# Altium integrated library Linear Technology Power Management LED Driver ICs.IntLib: 490 symbols (part 47 of 48)
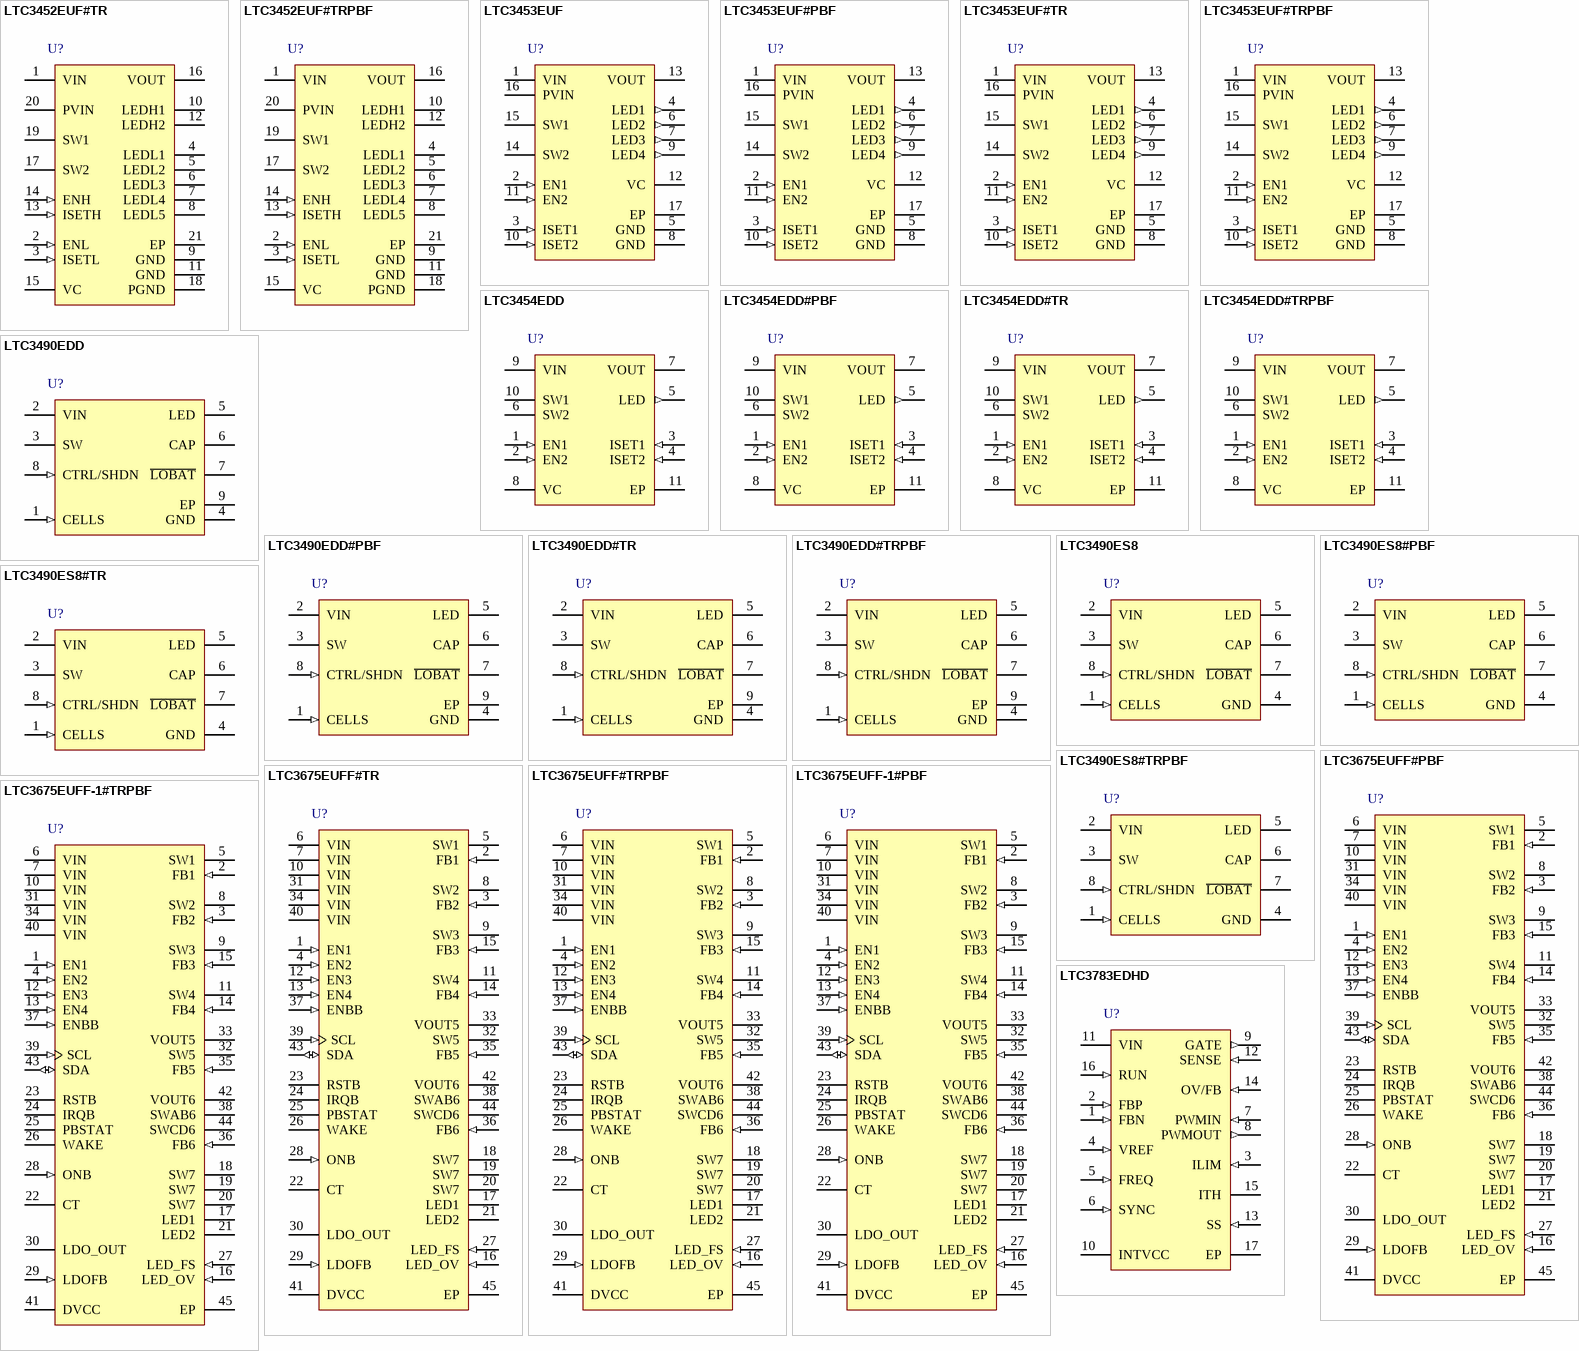
[diagram p66: symbols LTC3452EUF#TR to LTC3783EDHD]

## LTC3675EUFF#PBF
designator U?
7-Channel Configurable High Power PMIC, 2.7 to 5.5 V Vin, 5.5 V Vout MAX, 44-pin QFN (UFF-44-V-UFF44MA), -40 to 125 degC, Pb-Free; Manufacturer: Linear Technology; PartNumber: LTC3675EUFF#PBF; Topology: Buck; Vin Min(V): 2.7; DatasheetVersion: Rev. C; PackageVersion: Rev. A, 06/2010; PackageReference: UFF-44; PackageDescription: 44-Pin Plastic QFN, Body 4 x 7 mm, Pitch 0.4 mm; Supplier 1: Digi-Key; Supplier Part Number 1: LTC3675EUFF#PBF-ND; Supplier 2: Newark; Supplier Part Number 2: 13T3891; RoHS: TRUE; Mounting Technology: Surface Mount; ComponentLink1Description: Manufacturer URL; ComponentLink1URL: http://www.linear.com/; ComponentLink2Description: Datasheet; ComponentLink2URL: http://cds.linear.com/docs/en/datasheet/36751fc.pdf; ComponentLink3Description: Package Specification; ComponentLink3URL: http://cds.linear.com/docs/en/packaging/QFN_44_05-08-1762.pdf
footprint LT-UFF-44-V-UFF44MA_V (QFN, 44-Leads, Body 7x4mm, Pitch 0.4mm, Thermal Pad 3.26x2.64mm)
pins: 1 EN1 (in) "Buck Regulator 1 Enable Input. Active high. This pin is a high impedance input; do not float.", 2 FB1 (in) "Buck Regulator 1 Feedback Pin. Receives feedback by a resistor divider connected across the output.", 3 FB2 (in) "Buck Regulator 2 Feedback Pin. Receives feedback by a resistor divider connected across the output. Connecting FB2 to VIN combines buck regulator 2 with buck regulator 1 for higher current.", 4 EN2 (in) "Buck Regulator 2 Enable Input. Active high. This pin is a high impedance input; do not float.", 5 SW1 (power) "Buck Regulator 1 Switch Node. External inductor connects to this pin.", 6 VIN (power) "Buck Regulator 1 Input Supply. A 10uF decoupling capacitor to GND is recommended. Must be connected to all other VIN supply pins", 7 VIN (power) "Buck Regulator 2 Input Supply. A 10uF decoupling capacitor to GND is recommended. Must be connected to all other VIN supply pins", 8 SW2 (power) "Buck Regulator 2 Switch Node. External inductor connects to this pin.", 9 SW3 (power) "Buck Regulator 3 Switch Node. External inductor connects to this pin.", 10 VIN (power) "Buck Regulators 3 and 4 Input Supply. A 10uF decoupling capacitor to GND is recommended. Must be connected to all other VIN supply pins", 11 SW4 (power) "Buck Regulator 4 Switch Node. External inductor connects to this pin.", 12 EN3 (in) "Buck Regulator 3 Enable Input. Active high. This pin is a high impedance input; do not float.", 13 EN4 (in) "Buck Regulator 4 Enable Input. Active high. This pin is a high impedance input; do not float.", 14 FB4 (in) "Buck Regulator 4 Feedback Pin. Receives feedback by a resistor divider connected across the output. Connecting FB4 to VIN combines buck regulator 4 with buck regulator 3 for higher current.", 15 FB3 (in) "Buck Regulator 3 Feedback Pin. Receives feedback by a resistor divider connected across the output. Connecting FB3 to VIN combines buck regulator 3 with buck regulator 2 for higher current.", 16 LED_OV (in) "Overvoltage Protection Pin for LED Driver.", 17 LED1 (power) "Connect a s tring of up to 10 LEDs to this pin.", 18 SW7 (power) "LED Driver Switch Node. External inductor connects to these pins.", 19 SW7 (power) "LED Driver Switch Node. External inductor connects to these pins.", 20 SW7 (power) "LED Driver Switch Node. External inductor connects to these pins.", 21 LED2 (power) "Connect a string of up to 10 LEDs to this pin.", 22 CT "Timing Capacitor Pin. A capacitor connected to GND sets a time constant which is scaled for use by the WAKE, RSTB and IRQB pins.", 23 RSTB (hiz) "Reset Pin. Open drain output. When the regulated output voltage of any enabled switching regulator is more than 8% below its programmed level, this pin is driven LOW. Assertion delay is scaled by the CT capacitor.", 24 IRQB (hiz) "Interrupt Pin. Open drain output. When undervoltage, overtemperature, or an unmasked error condition is detected, this pin is driven LOW.", 25 PBSTAT (hiz) "Pushbutton Status Pin. Open drain output. This pin provides a debounced and glitch free status of the ONB pin.", 26 WAKE (oc) "Open Drain Output. When the ONB pin is pressed and released, the signal is debounced and the WAKE signal is held HIGH for a minimum time period that is scaled by the CT capacitor.", 27 LED_FS (in) "A resistor connected from this pin to GND programs full-scale LED current.", 28 ONB (in) "Pushbutton Input. Active low.", 29 LDOFB (in) "LDO Feedback Pin. A resistor divider from LDO_OUT to GND provides feedback.", 30 LDO_OUT (power) "Output of Always-On LDO. Decouple with a 10uF capacitor to GND.", 31 VIN (power) "Quiet Input Supply Used to Power NonSwitching Control Circuitry. A 2.2uF decoupling capacitor to GND is recommended. Must be connected to all other VIN supply pins", 32 SW5 "Boost Regulator Switch Node. External inductor connects to this pin.", 33 VOUT5 (power) "Boost Regulator Output. Connect two 22uF capacitors to GND.", 34 VIN (power) "Quiet Input Supply Used to Power NonSwitching Control Circuitry. A 2.2uF decoupling capacitor to GND is recommended. Must be connected to all other VIN supply pins", 35 FB5 (in) "Boost Regulator Feedback Pin. Receives feedbackby a resistor divide rconnected across the output.", 36 FB6 (in) "Buck-Boost Regulator Feedback Pin. Receives feedback by a resistor divider connected across the output.", 37 ENBB (in) "Buck-Boost Regulator Enable Input. Active high. This pin is a high impedance input; do not float.", 38 SWAB6 "Buck-Boost Regulator Switch Pin. External inductor connects to this pin and SWCD6.", 39 SCL (in) "Clock Line for I2C Port.", 40 VIN (power) "Buck-Boost Regulator Input Supply. A 10uF decoupling capacitor to GND is recommended. Must be connected to all other VIN supply pins", 41 DVCC (power) "Supply Pin for I2C Port.", 42 VOUT6 (power) "Buck-Boost Regulator Output. Connect a 22uF capacitor to GND.", 43 SDA (io) "Serial Data Line for I2C Port. Open drain output during readback.", 44 SWCD6 "Buck-Boost Regulator Switch Pin. External inductor connects to this pin and SWAB6.", 45 EP (power) "Ground for Entire Chip. Must be soldered to PCB for electrical contact and rated thermal performance."

## LTC3675EUFF#TR
designator U?
7-Channel Configurable High Power PMIC, 2.7 to 5.5 V Vin, 5.5 V Vout MAX, 44-pin QFN (UFF-44-V-UFF44MA), -40 to 125 degC, Tape and Reel; Manufacturer: Linear Technology; PartNumber: LTC3675EUFF#TR; Topology: Buck; Vin Min(V): 2.7; DatasheetVersion: Rev. C; PackageVersion: Rev. A, 06/2010; PackageReference: UFF-44; PackageDescription: 44-Pin Plastic QFN, Body 4 x 7 mm, Pitch 0.4 mm; Packing: Tape and Reel; RoHS: FALSE; Mounting Technology: Surface Mount; ComponentLink1Description: Manufacturer URL; ComponentLink1URL: http://www.linear.com/; ComponentLink2Description: Datasheet; ComponentLink2URL: http://cds.linear.com/docs/en/datasheet/36751fc.pdf; ComponentLink3Description: Package Specification; ComponentLink3URL: http://cds.linear.com/docs/en/packaging/QFN_44_05-08-1762.pdf
footprint LT-UFF-44-V-UFF44MA_V (QFN, 44-Leads, Body 7x4mm, Pitch 0.4mm, Thermal Pad 3.26x2.64mm)
pins: 1 EN1 (in) "Buck Regulator 1 Enable Input. Active high. This pin is a high impedance input; do not float.", 2 FB1 (in) "Buck Regulator 1 Feedback Pin. Receives feedback by a resistor divider connected across the output.", 3 FB2 (in) "Buck Regulator 2 Feedback Pin. Receives feedback by a resistor divider connected across the output. Connecting FB2 to VIN combines buck regulator 2 with buck regulator 1 for higher current.", 4 EN2 (in) "Buck Regulator 2 Enable Input. Active high. This pin is a high impedance input; do not float.", 5 SW1 (power) "Buck Regulator 1 Switch Node. External inductor connects to this pin.", 6 VIN (power) "Buck Regulator 1 Input Supply. A 10uF decoupling capacitor to GND is recommended. Must be connected to all other VIN supply pins", 7 VIN (power) "Buck Regulator 2 Input Supply. A 10uF decoupling capacitor to GND is recommended. Must be connected to all other VIN supply pins", 8 SW2 (power) "Buck Regulator 2 Switch Node. External inductor connects to this pin.", 9 SW3 (power) "Buck Regulator 3 Switch Node. External inductor connects to this pin.", 10 VIN (power) "Buck Regulators 3 and 4 Input Supply. A 10uF decoupling capacitor to GND is recommended. Must be connected to all other VIN supply pins", 11 SW4 (power) "Buck Regulator 4 Switch Node. External inductor connects to this pin.", 12 EN3 (in) "Buck Regulator 3 Enable Input. Active high. This pin is a high impedance input; do not float.", 13 EN4 (in) "Buck Regulator 4 Enable Input. Active high. This pin is a high impedance input; do not float.", 14 FB4 (in) "Buck Regulator 4 Feedback Pin. Receives feedback by a resistor divider connected across the output. Connecting FB4 to VIN combines buck regulator 4 with buck regulator 3 for higher current.", 15 FB3 (in) "Buck Regulator 3 Feedback Pin. Receives feedback by a resistor divider connected across the output. Connecting FB3 to VIN combines buck regulator 3 with buck regulator 2 for higher current.", 16 LED_OV (in) "Overvoltage Protection Pin for LED Driver.", 17 LED1 (power) "Connect a s tring of up to 10 LEDs to this pin.", 18 SW7 (power) "LED Driver Switch Node. External inductor connects to these pins.", 19 SW7 (power) "LED Driver Switch Node. External inductor connects to these pins.", 20 SW7 (power) "LED Driver Switch Node. External inductor connects to these pins.", 21 LED2 (power) "Connect a string of up to 10 LEDs to this pin.", 22 CT "Timing Capacitor Pin. A capacitor connected to GND sets a time constant which is scaled for use by the WAKE, RSTB and IRQB pins.", 23 RSTB (hiz) "Reset Pin. Open drain output. When the regulated output voltage of any enabled switching regulator is more than 8% below its programmed level, this pin is driven LOW. Assertion delay is scaled by the CT capacitor.", 24 IRQB (hiz) "Interrupt Pin. Open drain output. When undervoltage, overtemperature, or an unmasked error condition is detected, this pin is driven LOW.", 25 PBSTAT (hiz) "Pushbutton Status Pin. Open drain output. This pin provides a debounced and glitch free status of the ONB pin.", 26 WAKE (oc) "Open Drain Output. When the ONB pin is pressed and released, the signal is debounced and the WAKE signal is held HIGH for a minimum time period that is scaled by the CT capacitor.", 27 LED_FS (in) "A resistor connected from this pin to GND programs full-scale LED current.", 28 ONB (in) "Pushbutton Input. Active low.", 29 LDOFB (in) "LDO Feedback Pin. A resistor divider from LDO_OUT to GND provides feedback.", 30 LDO_OUT (power) "Output of Always-On LDO. Decouple with a 10uF capacitor to GND.", 31 VIN (power) "Quiet Input Supply Used to Power NonSwitching Control Circuitry. A 2.2uF decoupling capacitor to GND is recommended. Must be connected to all other VIN supply pins", 32 SW5 "Boost Regulator Switch Node. External inductor connects to this pin.", 33 VOUT5 (power) "Boost Regulator Output. Connect two 22uF capacitors to GND.", 34 VIN (power) "Quiet Input Supply Used to Power NonSwitching Control Circuitry. A 2.2uF decoupling capacitor to GND is recommended. Must be connected to all other VIN supply pins", 35 FB5 (in) "Boost Regulator Feedback Pin. Receives feedbackby a resistor divide rconnected across the output.", 36 FB6 (in) "Buck-Boost Regulator Feedback Pin. Receives feedback by a resistor divider connected across the output.", 37 ENBB (in) "Buck-Boost Regulator Enable Input. Active high. This pin is a high impedance input; do not float.", 38 SWAB6 "Buck-Boost Regulator Switch Pin. External inductor connects to this pin and SWCD6.", 39 SCL (in) "Clock Line for I2C Port.", 40 VIN (power) "Buck-Boost Regulator Input Supply. A 10uF decoupling capacitor to GND is recommended. Must be connected to all other VIN supply pins", 41 DVCC (power) "Supply Pin for I2C Port.", 42 VOUT6 (power) "Buck-Boost Regulator Output. Connect a 22uF capacitor to GND.", 43 SDA (io) "Serial Data Line for I2C Port. Open drain output during readback.", 44 SWCD6 "Buck-Boost Regulator Switch Pin. External inductor connects to this pin and SWAB6.", 45 EP (power) "Ground for Entire Chip. Must be soldered to PCB for electrical contact and rated thermal performance."

## LTC3675EUFF#TRPBF
designator U?
7-Channel Configurable High Power PMIC, 2.7 to 5.5 V Vin, 5.5 V Vout MAX, 44-pin QFN (UFF-44-V-UFF44MA), -40 to 125 degC, Pb-Free, Tape and Reel; Manufacturer: Linear Technology; PartNumber: LTC3675EUFF#TRPBF; Topology: Buck; Vin Min(V): 2.7; DatasheetVersion: Rev. C; PackageVersion: Rev. A, 06/2010; PackageReference: UFF-44; PackageDescription: 44-Pin Plastic QFN, Body 4 x 7 mm, Pitch 0.4 mm; Supplier 1: Digi-Key; Supplier Part Number 1: LTC3675EUFF#TRPBF-ND; Supplier 2: Newark; Supplier Part Number 2: 13T3892; Packing: Tape and Reel; RoHS: TRUE; Mounting Technology: Surface Mount; ComponentLink1Description: Manufacturer URL; ComponentLink1URL: http://www.linear.com/; ComponentLink2Description: Datasheet; ComponentLink2URL: http://cds.linear.com/docs/en/datasheet/36751fc.pdf; ComponentLink3Description: Package Specification; ComponentLink3URL: http://cds.linear.com/docs/en/packaging/QFN_44_05-08-1762.pdf
footprint LT-UFF-44-V-UFF44MA_V (QFN, 44-Leads, Body 7x4mm, Pitch 0.4mm, Thermal Pad 3.26x2.64mm)
pins: 1 EN1 (in) "Buck Regulator 1 Enable Input. Active high. This pin is a high impedance input; do not float.", 2 FB1 (in) "Buck Regulator 1 Feedback Pin. Receives feedback by a resistor divider connected across the output.", 3 FB2 (in) "Buck Regulator 2 Feedback Pin. Receives feedback by a resistor divider connected across the output. Connecting FB2 to VIN combines buck regulator 2 with buck regulator 1 for higher current.", 4 EN2 (in) "Buck Regulator 2 Enable Input. Active high. This pin is a high impedance input; do not float.", 5 SW1 (power) "Buck Regulator 1 Switch Node. External inductor connects to this pin.", 6 VIN (power) "Buck Regulator 1 Input Supply. A 10uF decoupling capacitor to GND is recommended. Must be connected to all other VIN supply pins", 7 VIN (power) "Buck Regulator 2 Input Supply. A 10uF decoupling capacitor to GND is recommended. Must be connected to all other VIN supply pins", 8 SW2 (power) "Buck Regulator 2 Switch Node. External inductor connects to this pin.", 9 SW3 (power) "Buck Regulator 3 Switch Node. External inductor connects to this pin.", 10 VIN (power) "Buck Regulators 3 and 4 Input Supply. A 10uF decoupling capacitor to GND is recommended. Must be connected to all other VIN supply pins", 11 SW4 (power) "Buck Regulator 4 Switch Node. External inductor connects to this pin.", 12 EN3 (in) "Buck Regulator 3 Enable Input. Active high. This pin is a high impedance input; do not float.", 13 EN4 (in) "Buck Regulator 4 Enable Input. Active high. This pin is a high impedance input; do not float.", 14 FB4 (in) "Buck Regulator 4 Feedback Pin. Receives feedback by a resistor divider connected across the output. Connecting FB4 to VIN combines buck regulator 4 with buck regulator 3 for higher current.", 15 FB3 (in) "Buck Regulator 3 Feedback Pin. Receives feedback by a resistor divider connected across the output. Connecting FB3 to VIN combines buck regulator 3 with buck regulator 2 for higher current.", 16 LED_OV (in) "Overvoltage Protection Pin for LED Driver.", 17 LED1 (power) "Connect a s tring of up to 10 LEDs to this pin.", 18 SW7 (power) "LED Driver Switch Node. External inductor connects to these pins.", 19 SW7 (power) "LED Driver Switch Node. External inductor connects to these pins.", 20 SW7 (power) "LED Driver Switch Node. External inductor connects to these pins.", 21 LED2 (power) "Connect a string of up to 10 LEDs to this pin.", 22 CT "Timing Capacitor Pin. A capacitor connected to GND sets a time constant which is scaled for use by the WAKE, RSTB and IRQB pins.", 23 RSTB (hiz) "Reset Pin. Open drain output. When the regulated output voltage of any enabled switching regulator is more than 8% below its programmed level, this pin is driven LOW. Assertion delay is scaled by the CT capacitor.", 24 IRQB (hiz) "Interrupt Pin. Open drain output. When undervoltage, overtemperature, or an unmasked error condition is detected, this pin is driven LOW.", 25 PBSTAT (hiz) "Pushbutton Status Pin. Open drain output. This pin provides a debounced and glitch free status of the ONB pin.", 26 WAKE (oc) "Open Drain Output. When the ONB pin is pressed and released, the signal is debounced and the WAKE signal is held HIGH for a minimum time period that is scaled by the CT capacitor.", 27 LED_FS (in) "A resistor connected from this pin to GND programs full-scale LED current.", 28 ONB (in) "Pushbutton Input. Active low.", 29 LDOFB (in) "LDO Feedback Pin. A resistor divider from LDO_OUT to GND provides feedback.", 30 LDO_OUT (power) "Output of Always-On LDO. Decouple with a 10uF capacitor to GND.", 31 VIN (power) "Quiet Input Supply Used to Power NonSwitching Control Circuitry. A 2.2uF decoupling capacitor to GND is recommended. Must be connected to all other VIN supply pins", 32 SW5 "Boost Regulator Switch Node. External inductor connects to this pin.", 33 VOUT5 (power) "Boost Regulator Output. Connect two 22uF capacitors to GND.", 34 VIN (power) "Quiet Input Supply Used to Power NonSwitching Control Circuitry. A 2.2uF decoupling capacitor to GND is recommended. Must be connected to all other VIN supply pins", 35 FB5 (in) "Boost Regulator Feedback Pin. Receives feedbackby a resistor divide rconnected across the output.", 36 FB6 (in) "Buck-Boost Regulator Feedback Pin. Receives feedback by a resistor divider connected across the output.", 37 ENBB (in) "Buck-Boost Regulator Enable Input. Active high. This pin is a high impedance input; do not float.", 38 SWAB6 "Buck-Boost Regulator Switch Pin. External inductor connects to this pin and SWCD6.", 39 SCL (in) "Clock Line for I2C Port.", 40 VIN (power) "Buck-Boost Regulator Input Supply. A 10uF decoupling capacitor to GND is recommended. Must be connected to all other VIN supply pins", 41 DVCC (power) "Supply Pin for I2C Port.", 42 VOUT6 (power) "Buck-Boost Regulator Output. Connect a 22uF capacitor to GND.", 43 SDA (io) "Serial Data Line for I2C Port. Open drain output during readback.", 44 SWCD6 "Buck-Boost Regulator Switch Pin. External inductor connects to this pin and SWAB6.", 45 EP (power) "Ground for Entire Chip. Must be soldered to PCB for electrical contact and rated thermal performance."

## LTC3675EUFF-1#PBF
designator U?
7-Channel Configurable High Power PMIC, 2.7 to 5.5 V Vin, 5.5 V Vout MAX, 44-pin QFN (UFF-44-V-UFF44MA), -40 to 125 degC, Pb-Free; Manufacturer: Linear Technology; PartNumber: LTC3675EUFF-1#PBF; Topology: Buck; Vin Min(V): 2.7; DatasheetVersion: Rev. C; PackageVersion: Rev. A, 06/2010; PackageReference: UFF-44; PackageDescription: 44-Pin Plastic QFN, Body 4 x 7 mm, Pitch 0.4 mm; Supplier 1: Digi-Key; Supplier Part Number 1: LTC3675EUFF-1#PBF-ND; Supplier 2: Newark; Supplier Part Number 2: 55W6740; RoHS: TRUE; Mounting Technology: Surface Mount; ComponentLink1Description: Manufacturer URL; ComponentLink1URL: http://www.linear.com/; ComponentLink2Description: Datasheet; ComponentLink2URL: http://cds.linear.com/docs/en/datasheet/36751fc.pdf; ComponentLink3Description: Package Specification; ComponentLink3URL: http://cds.linear.com/docs/en/packaging/QFN_44_05-08-1762.pdf
footprint LT-UFF-44-V-UFF44MA_V (QFN, 44-Leads, Body 7x4mm, Pitch 0.4mm, Thermal Pad 3.26x2.64mm)
pins: 1 EN1 (in) "Buck Regulator 1 Enable Input. Active high. This pin is a high impedance input; do not float.", 2 FB1 (in) "Buck Regulator 1 Feedback Pin. Receives feedback by a resistor divider connected across the output.", 3 FB2 (in) "Buck Regulator 2 Feedback Pin. Receives feedback by a resistor divider connected across the output. Connecting FB2 to VIN combines buck regulator 2 with buck regulator 1 for higher current.", 4 EN2 (in) "Buck Regulator 2 Enable Input. Active high. This pin is a high impedance input; do not float.", 5 SW1 (power) "Buck Regulator 1 Switch Node. External inductor connects to this pin.", 6 VIN (power) "Buck Regulator 1 Input Supply. A 10uF decoupling capacitor to GND is recommended. Must be connected to all other VIN supply pins", 7 VIN (power) "Buck Regulator 2 Input Supply. A 10uF decoupling capacitor to GND is recommended. Must be connected to all other VIN supply pins", 8 SW2 (power) "Buck Regulator 2 Switch Node. External inductor connects to this pin.", 9 SW3 (power) "Buck Regulator 3 Switch Node. External inductor connects to this pin.", 10 VIN (power) "Buck Regulators 3 and 4 Input Supply. A 10uF decoupling capacitor to GND is recommended. Must be connected to all other VIN supply pins", 11 SW4 (power) "Buck Regulator 4 Switch Node. External inductor connects to this pin.", 12 EN3 (in) "Buck Regulator 3 Enable Input. Active high. This pin is a high impedance input; do not float.", 13 EN4 (in) "Buck Regulator 4 Enable Input. Active high. This pin is a high impedance input; do not float.", 14 FB4 (in) "Buck Regulator 4 Feedback Pin. Receives feedback by a resistor divider connected across the output. Connecting FB4 to VIN combines buck regulator 4 with buck regulator 3 for higher current.", 15 FB3 (in) "Buck Regulator 3 Feedback Pin. Receives feedback by a resistor divider connected across the output. Connecting FB3 to VIN combines buck regulator 3 with buck regulator 2 for higher current.", 16 LED_OV (in) "Overvoltage Protection Pin for LED Driver.", 17 LED1 (power) "Connect a s tring of up to 10 LEDs to this pin.", 18 SW7 (power) "LED Driver Switch Node. External inductor connects to these pins.", 19 SW7 (power) "LED Driver Switch Node. External inductor connects to these pins.", 20 SW7 (power) "LED Driver Switch Node. External inductor connects to these pins.", 21 LED2 (power) "Connect a string of up to 10 LEDs to this pin.", 22 CT "Timing Capacitor Pin. A capacitor connected to GND sets a time constant which is scaled for use by the WAKE, RSTB and IRQB pins.", 23 RSTB (hiz) "Reset Pin. Open drain output. When the regulated output voltage of any enabled switching regulator is more than 8% below its programmed level, this pin is driven LOW. Assertion delay is scaled by the CT capacitor.", 24 IRQB (hiz) "Interrupt Pin. Open drain output. When undervoltage, overtemperature, or an unmasked error condition is detected, this pin is driven LOW.", 25 PBSTAT (hiz) "Pushbutton Status Pin. Open drain output. This pin provides a debounced and glitch free status of the ONB pin.", 26 WAKE (oc) "Open Drain Output. When the ONB pin is pressed and released, the signal is debounced and the WAKE signal is held HIGH for a minimum time period that is scaled by the CT capacitor.", 27 LED_FS (in) "A resistor connected from this pin to GND programs full-scale LED current.", 28 ONB (in) "Pushbutton Input. Active low.", 29 LDOFB (in) "LDO Feedback Pin. A resistor divider from LDO_OUT to GND provides feedback.", 30 LDO_OUT (power) "Output of Always-On LDO. Decouple with a 10uF capacitor to GND.", 31 VIN (power) "Quiet Input Supply Used to Power NonSwitching Control Circuitry. A 2.2uF decoupling capacitor to GND is recommended. Must be connected to all other VIN supply pins", 32 SW5 "Boost Regulator Switch Node. External inductor connects to this pin.", 33 VOUT5 (power) "Boost Regulator Output. Connect two 22uF capacitors to GND.", 34 VIN (power) "Quiet Input Supply Used to Power NonSwitching Control Circuitry. A 2.2uF decoupling capacitor to GND is recommended. Must be connected to all other VIN supply pins", 35 FB5 (in) "Boost Regulator Feedback Pin. Receives feedbackby a resistor divide rconnected across the output.", 36 FB6 (in) "Buck-Boost Regulator Feedback Pin. Receives feedback by a resistor divider connected across the output.", 37 ENBB (in) "Buck-Boost Regulator Enable Input. Active high. This pin is a high impedance input; do not float.", 38 SWAB6 "Buck-Boost Regulator Switch Pin. External inductor connects to this pin and SWCD6.", 39 SCL (in) "Clock Line for I2C Port.", 40 VIN (power) "Buck-Boost Regulator Input Supply. A 10uF decoupling capacitor to GND is recommended. Must be connected to all other VIN supply pins", 41 DVCC (power) "Supply Pin for I2C Port.", 42 VOUT6 (power) "Buck-Boost Regulator Output. Connect a 22uF capacitor to GND.", 43 SDA (io) "Serial Data Line for I2C Port. Open drain output during readback.", 44 SWCD6 "Buck-Boost Regulator Switch Pin. External inductor connects to this pin and SWAB6.", 45 EP (power) "Ground for Entire Chip. Must be soldered to PCB for electrical contact and rated thermal performance."

## LTC3675EUFF-1#TRPBF
designator U?
7-Channel Configurable High Power PMIC, 2.7 to 5.5 V Vin, 5.5 V Vout MAX, 44-pin QFN (UFF-44-V-UFF44MA), -40 to 125 degC, Pb-Free, Tape and Reel; Manufacturer: Linear Technology; PartNumber: LTC3675EUFF-1#TRPBF; Topology: Buck; Vin Min(V): 2.7; DatasheetVersion: Rev. C; PackageVersion: Rev. A, 06/2010; PackageReference: UFF-44; PackageDescription: 44-Pin Plastic QFN, Body 4 x 7 mm, Pitch 0.4 mm; Supplier 1: Digi-Key; Supplier Part Number 1: LTC3675EUFF-1#TRPBF-ND; Supplier 2: Newark; Supplier Part Number 2: 55W6741; Packing: Tape and Reel; RoHS: TRUE; Mounting Technology: Surface Mount; ComponentLink1Description: Manufacturer URL; ComponentLink1URL: http://www.linear.com/; ComponentLink2Description: Datasheet; ComponentLink2URL: http://cds.linear.com/docs/en/datasheet/36751fc.pdf; ComponentLink3Description: Package Specification; ComponentLink3URL: http://cds.linear.com/docs/en/packaging/QFN_44_05-08-1762.pdf
footprint LT-UFF-44-V-UFF44MA_V (QFN, 44-Leads, Body 7x4mm, Pitch 0.4mm, Thermal Pad 3.26x2.64mm)
pins: 1 EN1 (in) "Buck Regulator 1 Enable Input. Active high. This pin is a high impedance input; do not float.", 2 FB1 (in) "Buck Regulator 1 Feedback Pin. Receives feedback by a resistor divider connected across the output.", 3 FB2 (in) "Buck Regulator 2 Feedback Pin. Receives feedback by a resistor divider connected across the output. Connecting FB2 to VIN combines buck regulator 2 with buck regulator 1 for higher current.", 4 EN2 (in) "Buck Regulator 2 Enable Input. Active high. This pin is a high impedance input; do not float.", 5 SW1 (power) "Buck Regulator 1 Switch Node. External inductor connects to this pin.", 6 VIN (power) "Buck Regulator 1 Input Supply. A 10uF decoupling capacitor to GND is recommended. Must be connected to all other VIN supply pins", 7 VIN (power) "Buck Regulator 2 Input Supply. A 10uF decoupling capacitor to GND is recommended. Must be connected to all other VIN supply pins", 8 SW2 (power) "Buck Regulator 2 Switch Node. External inductor connects to this pin.", 9 SW3 (power) "Buck Regulator 3 Switch Node. External inductor connects to this pin.", 10 VIN (power) "Buck Regulators 3 and 4 Input Supply. A 10uF decoupling capacitor to GND is recommended. Must be connected to all other VIN supply pins", 11 SW4 (power) "Buck Regulator 4 Switch Node. External inductor connects to this pin.", 12 EN3 (in) "Buck Regulator 3 Enable Input. Active high. This pin is a high impedance input; do not float.", 13 EN4 (in) "Buck Regulator 4 Enable Input. Active high. This pin is a high impedance input; do not float.", 14 FB4 (in) "Buck Regulator 4 Feedback Pin. Receives feedback by a resistor divider connected across the output. Connecting FB4 to VIN combines buck regulator 4 with buck regulator 3 for higher current.", 15 FB3 (in) "Buck Regulator 3 Feedback Pin. Receives feedback by a resistor divider connected across the output. Connecting FB3 to VIN combines buck regulator 3 with buck regulator 2 for higher current.", 16 LED_OV (in) "Overvoltage Protection Pin for LED Driver.", 17 LED1 (power) "Connect a s tring of up to 10 LEDs to this pin.", 18 SW7 (power) "LED Driver Switch Node. External inductor connects to these pins.", 19 SW7 (power) "LED Driver Switch Node. External inductor connects to these pins.", 20 SW7 (power) "LED Driver Switch Node. External inductor connects to these pins.", 21 LED2 (power) "Connect a string of up to 10 LEDs to this pin.", 22 CT "Timing Capacitor Pin. A capacitor connected to GND sets a time constant which is scaled for use by the WAKE, RSTB and IRQB pins.", 23 RSTB (hiz) "Reset Pin. Open drain output. When the regulated output voltage of any enabled switching regulator is more than 8% below its programmed level, this pin is driven LOW. Assertion delay is scaled by the CT capacitor.", 24 IRQB (hiz) "Interrupt Pin. Open drain output. When undervoltage, overtemperature, or an unmasked error condition is detected, this pin is driven LOW.", 25 PBSTAT (hiz) "Pushbutton Status Pin. Open drain output. This pin provides a debounced and glitch free status of the ONB pin.", 26 WAKE (oc) "Open Drain Output. When the ONB pin is pressed and released, the signal is debounced and the WAKE signal is held HIGH for a minimum time period that is scaled by the CT capacitor.", 27 LED_FS (in) "A resistor connected from this pin to GND programs full-scale LED current.", 28 ONB (in) "Pushbutton Input. Active low.", 29 LDOFB (in) "LDO Feedback Pin. A resistor divider from LDO_OUT to GND provides feedback.", 30 LDO_OUT (power) "Output of Always-On LDO. Decouple with a 10uF capacitor to GND.", 31 VIN (power) "Quiet Input Supply Used to Power NonSwitching Control Circuitry. A 2.2uF decoupling capacitor to GND is recommended. Must be connected to all other VIN supply pins", 32 SW5 "Boost Regulator Switch Node. External inductor connects to this pin.", 33 VOUT5 (power) "Boost Regulator Output. Connect two 22uF capacitors to GND.", 34 VIN (power) "Quiet Input Supply Used to Power NonSwitching Control Circuitry. A 2.2uF decoupling capacitor to GND is recommended. Must be connected to all other VIN supply pins", 35 FB5 (in) "Boost Regulator Feedback Pin. Receives feedbackby a resistor divide rconnected across the output.", 36 FB6 (in) "Buck-Boost Regulator Feedback Pin. Receives feedback by a resistor divider connected across the output.", 37 ENBB (in) "Buck-Boost Regulator Enable Input. Active high. This pin is a high impedance input; do not float.", 38 SWAB6 "Buck-Boost Regulator Switch Pin. External inductor connects to this pin and SWCD6.", 39 SCL (in) "Clock Line for I2C Port.", 40 VIN (power) "Buck-Boost Regulator Input Supply. A 10uF decoupling capacitor to GND is recommended. Must be connected to all other VIN supply pins", 41 DVCC (power) "Supply Pin for I2C Port.", 42 VOUT6 (power) "Buck-Boost Regulator Output. Connect a 22uF capacitor to GND.", 43 SDA (io) "Serial Data Line for I2C Port. Open drain output during readback.", 44 SWCD6 "Buck-Boost Regulator Switch Pin. External inductor connects to this pin and SWAB6.", 45 EP (power) "Ground for Entire Chip. Must be soldered to PCB for electrical contact and rated thermal performance."

## LTC3783EDHD
designator U?
PWM LED Driver and Boost, Flyback and SEPIC Converter, 3 to 36 V Vin, 100 V Vout MAX, 16-pin SON (DHD-16), -40 to 85 degC; Manufacturer: Linear Technology; PartNumber: LTC3783EDHD; Topology: Boost, Sepic, Flyback; Vin Min(V): 3; PackageVersion: Jun-10; PackageReference: DHD-16; PackageDescription: 16-Pin Plastic DFN, Body 5 x 4 mm, Pitch 0.5 mm; RoHS: FALSE; Mounting Technology: Surface Mount; Code_JEDEC: MO-229; ComponentLink1Description: Manufacturer URL; ComponentLink1URL: http://www.linear.com/; ComponentLink2Description: Datasheet; ComponentLink2URL: http://cds.linear.com/docs/en/datasheet/3783fb.pdf; ComponentLink3Description: Package Specification; ComponentLink3URL: http://cds.linear.com/docs/en/packaging/DFN_16_05-08-1707.pdf
footprint LT-DHD-16_V (SON, 16-Leads, Body 5x4mm, Pitch 0.5mm, Thermal Pad 4.34x2.44mm)
pins: 1 FBN (in) "Error Amplifier Inverting Input/Negative Current Sense Pin. In voltage mode (VFBP =< VVREF), this pin senses feedback voltage from either the external resistor divider across VOUT for output voltage regulation, or the (See Datasheet)", 2 FBP (in) "Error Amplifier Noninverting Input/Positive Current Sense Pin. This pin voltage determines the controlloop’s feedback mode (voltage or constant current/constant voltage), the threshold of which is approximately 2V. I(See Datasheet)", 3 ILIM (in) "Current Limit Pin. Sets current sense resistor offset voltage (VFBP - VFBN) in constant current mode regulation (i.e., when VFBP > 2.5V). Offset voltage is 100Mv when VILIM = 1.23V and decreases proportionally with VILIM. (See Datasheet)", 4 VREF (in) "Reference Voltage Pin. Provides a buffered version of the internal bandgap voltage, which can be connected to FBP either directly or with attenuation. Nominal voltage for this pin is 1.23V. This pin should never be bypassed (See Datasheet)", 5 FREQ (in) "A resistor from the FREQ pin to ground programs the operating frequency of the chip. The nominal voltage at the FREQ pin is 0.615V", 6 SYNC (in) "This input allows for synchronizing the operating frequency to an external clock and has an internal 100k pull-down resistor.", 7 PWMIN (in) "PWM Gate Driver Input. Internal 100k pull-up resistor. While PWMIN is low, PWMOUT is low, GATE stops switching and the external ITH network is disconnected, saving the ITH state", 8 PWMOUT (out) "PWM Gate Driver Output. Used for constant current dimming (LED load) or for output disconnect (step-up power supply).", 9 GATE (out) "Main Gate Driver Output for the Boost Converter.", 10 INTVCC (power) "Internal 7V Regulator Output. The main and PWM gate drivers and control circuits are powered from this voltage. Decouple this pin locally to the IC ground with a minimum of 4.7uF low ESR ceramic capacitor.", 11 VIN (power) "Main Supply Pin. Must be closely decoupled to ground.", 12 SENSE (in) "Current Sense Input for the Control Loop. Connect this pin to the drain of the main power MOSFET for VDS sensing and highest efficiency for VSENSE =< 36V. Alternatively, the SENSE pin may be connected to a resistor in the (See Datasheet)", 13 SS (in) "Soft-Start Pin. Provides a 50uA pull-up current, enabled and reset by RUN, which charges an optional external capacitor. This voltage ramp translates into a corresponding current limit ramp through the main MOSFET.", 14 OV/FB (in) "Overvoltage Pin/Voltage Feedback Pin. In voltage mode (VFBP =< VREF), this input, connected to VOUT through a resistor network, sets the output voltage at which GATE switching is disabled in order to prevent an overvoltage (See Datasheet)", 15 ITH "Error Amplifier Output/Compensation Pin. The current comparator input threshold increases with this control voltage, which is the output of the gm type error amplifier. Nominal voltage range for this pin is 0V to 1.40V.", 16 RUN (in) "The RUN pin provides the user with an accurate means for sensing the input voltage and programming the start-up threshold for the converter. The falling RUN pin threshold is nominally 1.248V and the comparator has 100mV (See Datasheet)", 17 EP (power) "Ground Pin. Solder to PCB ground for electrical contact and rated thermal performance."

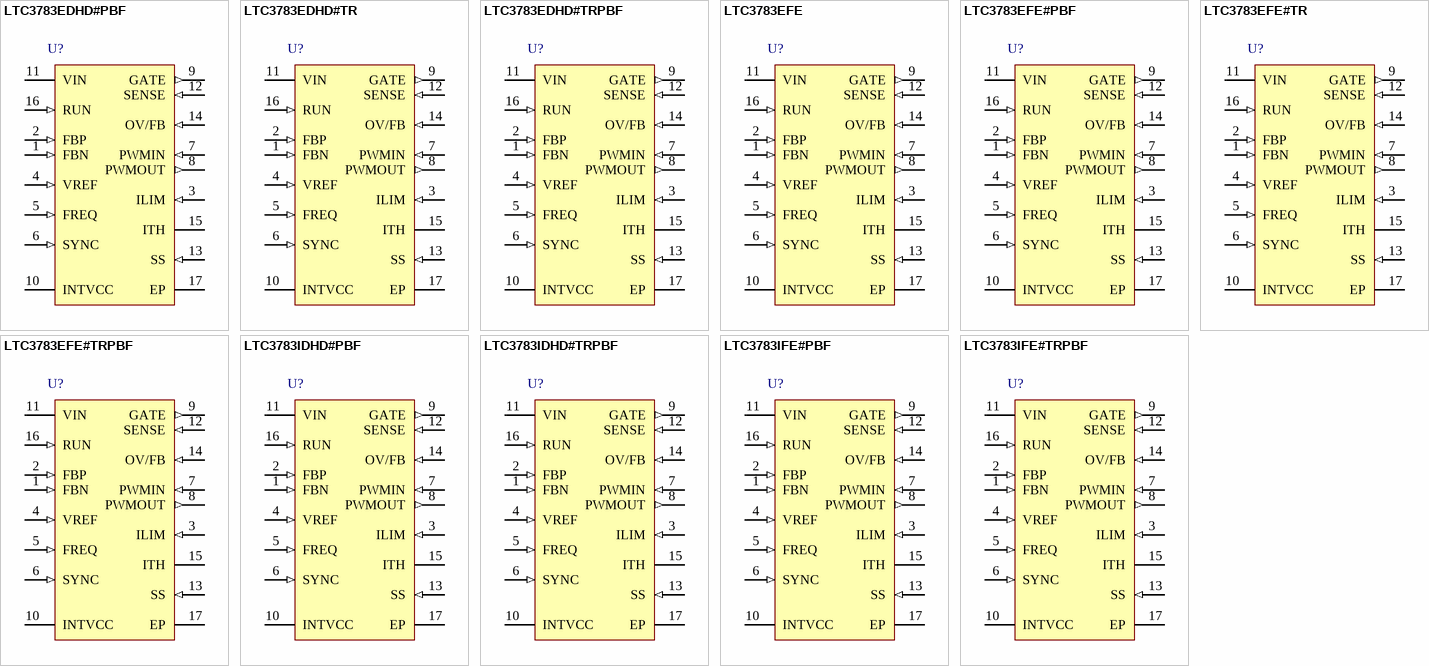
[diagram p20: symbols LTC3783EDHD#PBF to LTC3783IFE#TRPBF]

## LTC3783EDHD#PBF
designator U?
PWM LED Driver and Boost, Flyback and SEPIC Converter, 3 to 36 V Vin, 100 V Vout MAX, 16-pin SON (DHD-16), -40 to 85 degC, Pb-Free; Manufacturer: Linear Technology; PartNumber: LTC3783EDHD#PBF; Topology: Boost, Sepic, Flyback; Vin Min(V): 3; PackageVersion: Jun-10; PackageReference: DHD-16; PackageDescription: 16-Pin Plastic DFN, Body 5 x 4 mm, Pitch 0.5 mm; Supplier 1: Digi-Key; Supplier Part Number 1: LTC3783EDHD#PBF-ND; Supplier 2: Farnell; Supplier Part Number 2: 1273546; Supplier 3: Newark; Supplier Part Number 3: 56M8411; RoHS: TRUE; Mounting Technology: Surface Mount; Code_JEDEC: MO-229; ComponentLink1Description: Manufacturer URL; ComponentLink1URL: http://www.linear.com/; ComponentLink2Description: Datasheet; ComponentLink2URL: http://cds.linear.com/docs/en/datasheet/3783fb.pdf; ComponentLink3Description: Package Specification; ComponentLink3URL: http://cds.linear.com/docs/en/packaging/DFN_16_05-08-1707.pdf
footprint LT-DHD-16_V (SON, 16-Leads, Body 5x4mm, Pitch 0.5mm, Thermal Pad 4.34x2.44mm)
pins: 1 FBN (in) "Error Amplifier Inverting Input/Negative Current Sense Pin. In voltage mode (VFBP =< VVREF), this pin senses feedback voltage from either the external resistor divider across VOUT for output voltage regulation, or the (See Datasheet)", 2 FBP (in) "Error Amplifier Noninverting Input/Positive Current Sense Pin. This pin voltage determines the controlloop’s feedback mode (voltage or constant current/constant voltage), the threshold of which is approximately 2V. I(See Datasheet)", 3 ILIM (in) "Current Limit Pin. Sets current sense resistor offset voltage (VFBP - VFBN) in constant current mode regulation (i.e., when VFBP > 2.5V). Offset voltage is 100Mv when VILIM = 1.23V and decreases proportionally with VILIM. (See Datasheet)", 4 VREF (in) "Reference Voltage Pin. Provides a buffered version of the internal bandgap voltage, which can be connected to FBP either directly or with attenuation. Nominal voltage for this pin is 1.23V. This pin should never be bypassed (See Datasheet)", 5 FREQ (in) "A resistor from the FREQ pin to ground programs the operating frequency of the chip. The nominal voltage at the FREQ pin is 0.615V", 6 SYNC (in) "This input allows for synchronizing the operating frequency to an external clock and has an internal 100k pull-down resistor.", 7 PWMIN (in) "PWM Gate Driver Input. Internal 100k pull-up resistor. While PWMIN is low, PWMOUT is low, GATE stops switching and the external ITH network is disconnected, saving the ITH state", 8 PWMOUT (out) "PWM Gate Driver Output. Used for constant current dimming (LED load) or for output disconnect (step-up power supply).", 9 GATE (out) "Main Gate Driver Output for the Boost Converter.", 10 INTVCC (power) "Internal 7V Regulator Output. The main and PWM gate drivers and control circuits are powered from this voltage. Decouple this pin locally to the IC ground with a minimum of 4.7uF low ESR ceramic capacitor.", 11 VIN (power) "Main Supply Pin. Must be closely decoupled to ground.", 12 SENSE (in) "Current Sense Input for the Control Loop. Connect this pin to the drain of the main power MOSFET for VDS sensing and highest efficiency for VSENSE =< 36V. Alternatively, the SENSE pin may be connected to a resistor in the (See Datasheet)", 13 SS (in) "Soft-Start Pin. Provides a 50uA pull-up current, enabled and reset by RUN, which charges an optional external capacitor. This voltage ramp translates into a corresponding current limit ramp through the main MOSFET.", 14 OV/FB (in) "Overvoltage Pin/Voltage Feedback Pin. In voltage mode (VFBP =< VREF), this input, connected to VOUT through a resistor network, sets the output voltage at which GATE switching is disabled in order to prevent an overvoltage (See Datasheet)", 15 ITH "Error Amplifier Output/Compensation Pin. The current comparator input threshold increases with this control voltage, which is the output of the gm type error amplifier. Nominal voltage range for this pin is 0V to 1.40V.", 16 RUN (in) "The RUN pin provides the user with an accurate means for sensing the input voltage and programming the start-up threshold for the converter. The falling RUN pin threshold is nominally 1.248V and the comparator has 100mV (See Datasheet)", 17 EP (power) "Ground Pin. Solder to PCB ground for electrical contact and rated thermal performance."

## LTC3783EDHD#TR
designator U?
PWM LED Driver and Boost, Flyback and SEPIC Converter, 3 to 36 V Vin, 100 V Vout MAX, 16-pin SON (DHD-16), -40 to 85 degC, Tape and Reel; Manufacturer: Linear Technology; PartNumber: LTC3783EDHD#TR; Topology: Boost, Sepic, Flyback; Vin Min(V): 3; PackageVersion: Jun-10; PackageReference: DHD-16; PackageDescription: 16-Pin Plastic DFN, Body 5 x 4 mm, Pitch 0.5 mm; Packing: Tape and Reel; RoHS: FALSE; Mounting Technology: Surface Mount; Code_JEDEC: MO-229; ComponentLink1Description: Manufacturer URL; ComponentLink1URL: http://www.linear.com/; ComponentLink2Description: Datasheet; ComponentLink2URL: http://cds.linear.com/docs/en/datasheet/3783fb.pdf; ComponentLink3Description: Package Specification; ComponentLink3URL: http://cds.linear.com/docs/en/packaging/DFN_16_05-08-1707.pdf
footprint LT-DHD-16_V (SON, 16-Leads, Body 5x4mm, Pitch 0.5mm, Thermal Pad 4.34x2.44mm)
pins: 1 FBN (in) "Error Amplifier Inverting Input/Negative Current Sense Pin. In voltage mode (VFBP =< VVREF), this pin senses feedback voltage from either the external resistor divider across VOUT for output voltage regulation, or the (See Datasheet)", 2 FBP (in) "Error Amplifier Noninverting Input/Positive Current Sense Pin. This pin voltage determines the controlloop’s feedback mode (voltage or constant current/constant voltage), the threshold of which is approximately 2V. I(See Datasheet)", 3 ILIM (in) "Current Limit Pin. Sets current sense resistor offset voltage (VFBP - VFBN) in constant current mode regulation (i.e., when VFBP > 2.5V). Offset voltage is 100Mv when VILIM = 1.23V and decreases proportionally with VILIM. (See Datasheet)", 4 VREF (in) "Reference Voltage Pin. Provides a buffered version of the internal bandgap voltage, which can be connected to FBP either directly or with attenuation. Nominal voltage for this pin is 1.23V. This pin should never be bypassed (See Datasheet)", 5 FREQ (in) "A resistor from the FREQ pin to ground programs the operating frequency of the chip. The nominal voltage at the FREQ pin is 0.615V", 6 SYNC (in) "This input allows for synchronizing the operating frequency to an external clock and has an internal 100k pull-down resistor.", 7 PWMIN (in) "PWM Gate Driver Input. Internal 100k pull-up resistor. While PWMIN is low, PWMOUT is low, GATE stops switching and the external ITH network is disconnected, saving the ITH state", 8 PWMOUT (out) "PWM Gate Driver Output. Used for constant current dimming (LED load) or for output disconnect (step-up power supply).", 9 GATE (out) "Main Gate Driver Output for the Boost Converter.", 10 INTVCC (power) "Internal 7V Regulator Output. The main and PWM gate drivers and control circuits are powered from this voltage. Decouple this pin locally to the IC ground with a minimum of 4.7uF low ESR ceramic capacitor.", 11 VIN (power) "Main Supply Pin. Must be closely decoupled to ground.", 12 SENSE (in) "Current Sense Input for the Control Loop. Connect this pin to the drain of the main power MOSFET for VDS sensing and highest efficiency for VSENSE =< 36V. Alternatively, the SENSE pin may be connected to a resistor in the (See Datasheet)", 13 SS (in) "Soft-Start Pin. Provides a 50uA pull-up current, enabled and reset by RUN, which charges an optional external capacitor. This voltage ramp translates into a corresponding current limit ramp through the main MOSFET.", 14 OV/FB (in) "Overvoltage Pin/Voltage Feedback Pin. In voltage mode (VFBP =< VREF), this input, connected to VOUT through a resistor network, sets the output voltage at which GATE switching is disabled in order to prevent an overvoltage (See Datasheet)", 15 ITH "Error Amplifier Output/Compensation Pin. The current comparator input threshold increases with this control voltage, which is the output of the gm type error amplifier. Nominal voltage range for this pin is 0V to 1.40V.", 16 RUN (in) "The RUN pin provides the user with an accurate means for sensing the input voltage and programming the start-up threshold for the converter. The falling RUN pin threshold is nominally 1.248V and the comparator has 100mV (See Datasheet)", 17 EP (power) "Ground Pin. Solder to PCB ground for electrical contact and rated thermal performance."

## LTC3783EDHD#TRPBF
designator U?
PWM LED Driver and Boost, Flyback and SEPIC Converter, 3 to 36 V Vin, 100 V Vout MAX, 16-pin SON (DHD-16), -40 to 85 degC, Pb-Free, Tape and Reel; Manufacturer: Linear Technology; PartNumber: LTC3783EDHD#TRPBF; Topology: Boost, Sepic, Flyback; Vin Min(V): 3; PackageVersion: Jun-10; PackageReference: DHD-16; PackageDescription: 16-Pin Plastic DFN, Body 5 x 4 mm, Pitch 0.5 mm; Supplier 1: Digi-Key; Supplier Part Number 1: LTC3783EDHD#TRPBF-ND; Packing: Tape and Reel; RoHS: TRUE; Mounting Technology: Surface Mount; Code_JEDEC: MO-229; ComponentLink1Description: Manufacturer URL; ComponentLink1URL: http://www.linear.com/; ComponentLink2Description: Datasheet; ComponentLink2URL: http://cds.linear.com/docs/en/datasheet/3783fb.pdf; ComponentLink3Description: Package Specification; ComponentLink3URL: http://cds.linear.com/docs/en/packaging/DFN_16_05-08-1707.pdf
footprint LT-DHD-16_V (SON, 16-Leads, Body 5x4mm, Pitch 0.5mm, Thermal Pad 4.34x2.44mm)
pins: 1 FBN (in) "Error Amplifier Inverting Input/Negative Current Sense Pin. In voltage mode (VFBP =< VVREF), this pin senses feedback voltage from either the external resistor divider across VOUT for output voltage regulation, or the (See Datasheet)", 2 FBP (in) "Error Amplifier Noninverting Input/Positive Current Sense Pin. This pin voltage determines the controlloop’s feedback mode (voltage or constant current/constant voltage), the threshold of which is approximately 2V. I(See Datasheet)", 3 ILIM (in) "Current Limit Pin. Sets current sense resistor offset voltage (VFBP - VFBN) in constant current mode regulation (i.e., when VFBP > 2.5V). Offset voltage is 100Mv when VILIM = 1.23V and decreases proportionally with VILIM. (See Datasheet)", 4 VREF (in) "Reference Voltage Pin. Provides a buffered version of the internal bandgap voltage, which can be connected to FBP either directly or with attenuation. Nominal voltage for this pin is 1.23V. This pin should never be bypassed (See Datasheet)", 5 FREQ (in) "A resistor from the FREQ pin to ground programs the operating frequency of the chip. The nominal voltage at the FREQ pin is 0.615V", 6 SYNC (in) "This input allows for synchronizing the operating frequency to an external clock and has an internal 100k pull-down resistor.", 7 PWMIN (in) "PWM Gate Driver Input. Internal 100k pull-up resistor. While PWMIN is low, PWMOUT is low, GATE stops switching and the external ITH network is disconnected, saving the ITH state", 8 PWMOUT (out) "PWM Gate Driver Output. Used for constant current dimming (LED load) or for output disconnect (step-up power supply).", 9 GATE (out) "Main Gate Driver Output for the Boost Converter.", 10 INTVCC (power) "Internal 7V Regulator Output. The main and PWM gate drivers and control circuits are powered from this voltage. Decouple this pin locally to the IC ground with a minimum of 4.7uF low ESR ceramic capacitor.", 11 VIN (power) "Main Supply Pin. Must be closely decoupled to ground.", 12 SENSE (in) "Current Sense Input for the Control Loop. Connect this pin to the drain of the main power MOSFET for VDS sensing and highest efficiency for VSENSE =< 36V. Alternatively, the SENSE pin may be connected to a resistor in the (See Datasheet)", 13 SS (in) "Soft-Start Pin. Provides a 50uA pull-up current, enabled and reset by RUN, which charges an optional external capacitor. This voltage ramp translates into a corresponding current limit ramp through the main MOSFET.", 14 OV/FB (in) "Overvoltage Pin/Voltage Feedback Pin. In voltage mode (VFBP =< VREF), this input, connected to VOUT through a resistor network, sets the output voltage at which GATE switching is disabled in order to prevent an overvoltage (See Datasheet)", 15 ITH "Error Amplifier Output/Compensation Pin. The current comparator input threshold increases with this control voltage, which is the output of the gm type error amplifier. Nominal voltage range for this pin is 0V to 1.40V.", 16 RUN (in) "The RUN pin provides the user with an accurate means for sensing the input voltage and programming the start-up threshold for the converter. The falling RUN pin threshold is nominally 1.248V and the comparator has 100mV (See Datasheet)", 17 EP (power) "Ground Pin. Solder to PCB ground for electrical contact and rated thermal performance."